# Altium schematic symbol library TMC5161.SchLib: 1 symbol
Pins are listed as number, name and electrical type; pins without a type are passive.

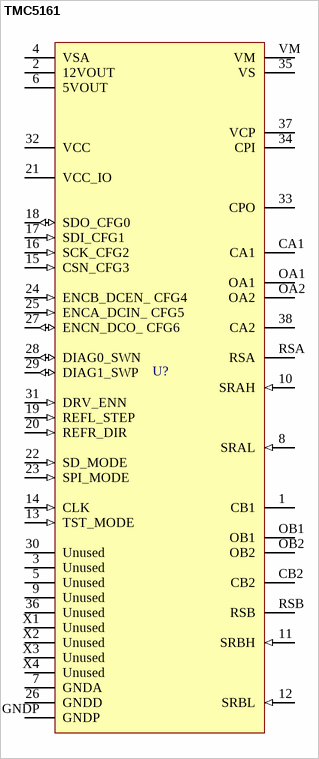
[diagram p0: symbol TMC5161]

## TMC5161
designator U?
STEPPER MOTOR CTLR/DVR SPI / Manufacturer PN: TMC5161-AA-T
footprint TMC5161-HH
pins: 1 CB1, 2 12VOUT, 3 Unused, 4 VSA, 5 Unused, 6 5VOUT, 7 GNDA, 8 SRAL (in), 9 Unused, 10 SRAH (in), 11 SRBH (in), 12 SRBL (in), 13 TST_MODE (in), 14 CLK (in), 15 CSN_CFG3 (in), 16 SCK_CFG2 (in), 17 SDI_CFG1 (in), 18 SDO_CFG0 (io), 19 REFL_STEP (in), 20 REFR_DIR (in), 21 VCC_IO, 22 SD_MODE (in), 23 SPI_MODE (in), 24 ENCB_DCEN_ CFG4 (in), 25 ENCA_DCIN_ CFG5 (in), 26 GNDD, 27 ENCN_DCO_ CFG6 (io), 28 DIAG0_SWN (io), 29 DIAG1_SWP (io), 30 Unused, 31 DRV_ENN (in), 32 VCC, 33 CPO, 34 CPI, 35 VS, 36 Unused, 37 VCP, 38 CA2, CA1, CB2, GNDP, OA1, OA2, OB1, OB2, RSA, RSB, VM, X1 Unused, X2 Unused, X3 Unused, X4 Unused